# Altium footprint library basic02_capacitors.pcblib: 11 footprints
Each footprint in its own frame and in the unit in brackets; x right, y up, seen from the top. Pads: shape width x height; smd on the part's side, far side on the other; paste and mask are expansions set on the pad; w line width, h text height; cw(c..) or ccw(c..) is an arc to the next point about the centre after c.
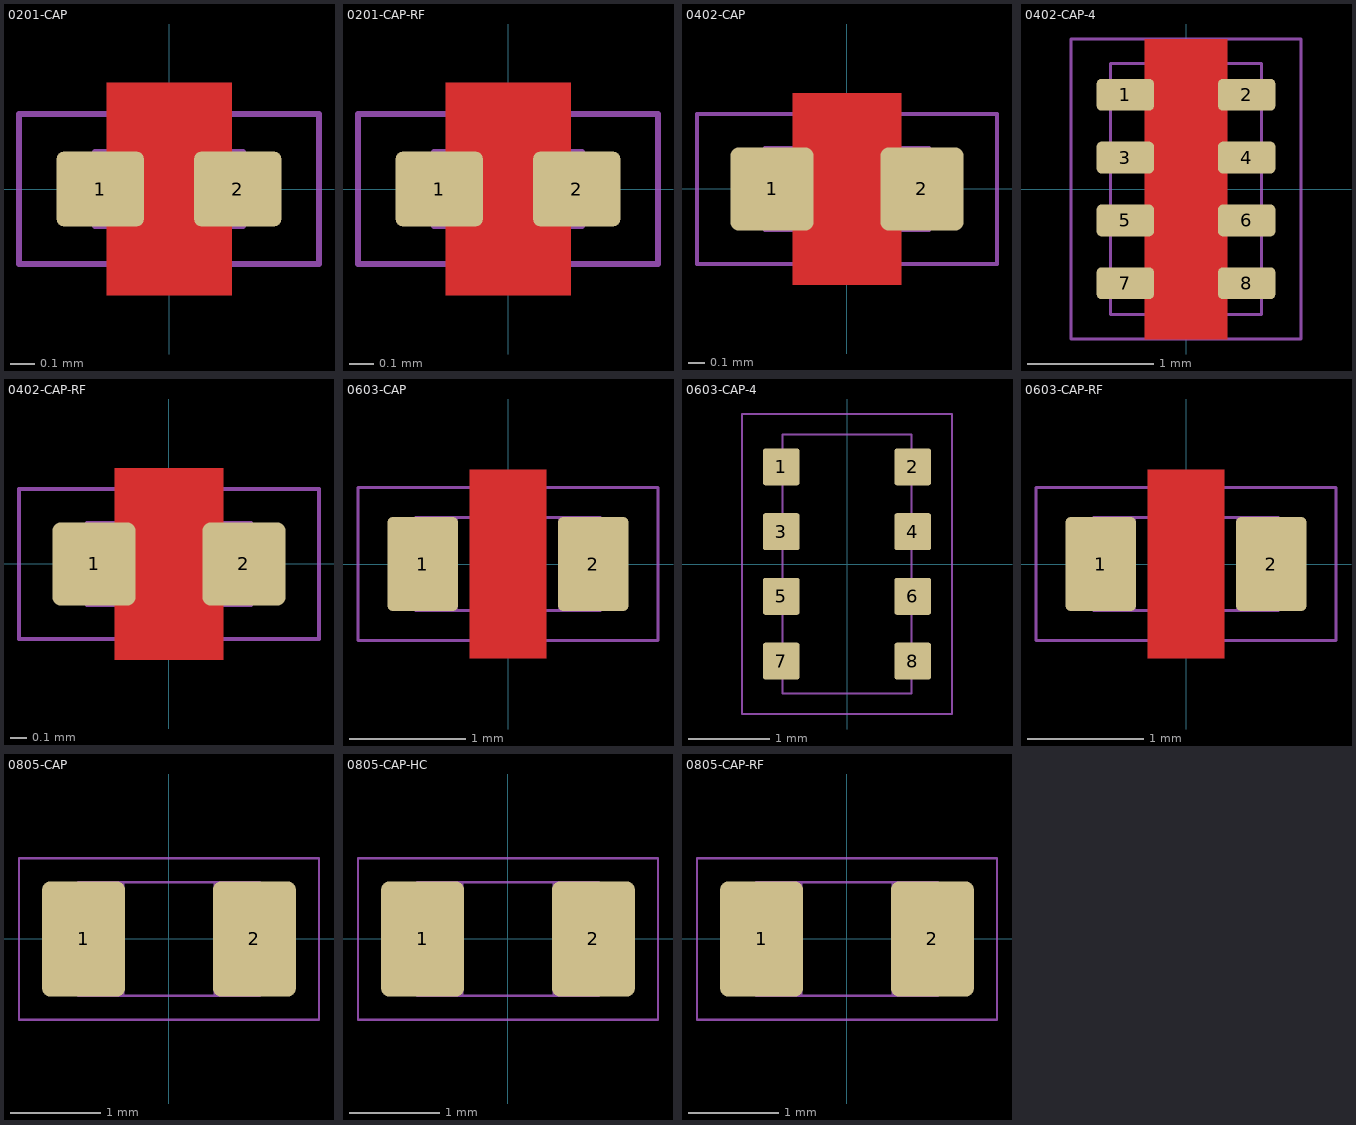
[diagram p0: the footprints below, top view; thin cyan lines are the x and y axes]

## 0201-CAP [mil] "Capacitor, 0201, General"
pads (2):
  rrect20% 14x12 smd paste+0 mask+2: 1(-11,0) 2(11,0)
Top Layer:
  pour cut-out: -10,-17 -10,17 10,17 10,-17
Top Solder:
  rectangle: -10,-8 10,8
  rectangle: -6,-13 6,13
Mechanical 15:
  lines w1: -24,-12 -24,12 24,12 24,-12 -24,-12
Mechanical 16:
  lines w1: -5.91,-5.91 -5.91,5.91 ; 5.91,-5.91 5.91,5.91 ; -11.81,-5.91 11.81,-5.91 11.81,5.91 -11.81,5.91 -11.81,-5.91
3D body: height 11.8, standoff 0.2, extent -11.81,-5.91 11.81,5.91
3D body: height 12, standoff 0, extent -12,-6 -6,6
3D body: height 12, standoff 0, extent 6,-6 12,6

## 0201-CAP-RF [mil] "Capacitor, 0201, High Frequency"
pads (2):
  rrect20% 14x12 smd paste+0 mask+2: 1(-11,0) 2(11,0)
Top Layer:
  pour cut-out: -10,-17 -10,17 10,17 10,-17
Top Solder:
  rectangle: -10,-8 10,8
  rectangle: -6,-13 6,13
Mechanical 15:
  lines w1: -24,-12 -24,12 24,12 24,-12 -24,-12
Mechanical 16:
  lines w1: -5.91,-5.91 -5.91,5.91 ; 5.91,-5.91 5.91,5.91 ; -11.81,-5.91 11.81,-5.91 11.81,5.91 -11.81,5.91 -11.81,-5.91
3D body: height 11.8, standoff 0.2, extent -11.81,-5.91 11.81,5.91
3D body: height 12, standoff 0, extent -12,-6 -6,6
3D body: height 12, standoff 0, extent 6,-6 12,6

## 0402-CAP [mil] "Capacitor, 0402, General"
pads (2):
  rrect20% 20x20 smd mask+2: 1(-18,0) 2(18,0)
Top Layer:
  pour cut-out: -13,23 13,23 13,-23 -13,-23
Top Solder:
  rectangle: -8,-18 8,18
  rectangle: -16,-12 16,12
Mechanical 15:
  lines w1: -36,-18 -36,18 36,18 36,-18 -36,-18
Mechanical 16:
  lines w1: -9.84,-9.84 -9.84,9.84 ; 9.84,-9.84 9.84,9.84 ; -19.68,-9.84 19.68,-9.84 19.68,9.84 -19.68,9.84 -19.68,-9.84
3D body: height 19.8, standoff 0.2, extent -19.68,-9.84 19.68,9.84
3D body: height 20, standoff 0, extent 10,-10 20,10
3D body: height 20, standoff 0, extent -20,-10 -10,10

## 0402-CAP-4 [mil] "Capacitor, 4 x 0402 Pack, General"
pads (8):
  rrect30% 18x10 smd mask+2: 1(-19,29.53) 2(19,29.53) 3(-19,9.84) 4(19,9.84) 5(-19,-9.84) 6(19,-9.84) 7(-19,-29.53) 8(19,-29.53)
Top Layer:
  pour cut-out: -13,47 13,47 13,-47 -13,-47
Top Solder:
  rectangle: -10,-16 10,16
Mechanical 15:
  lines w1: -36,-47 36,-47 36,47 -36,47 -36,-47
Mechanical 16:
  lines w1: -23.62,-39.37 -23.62,39.37 23.62,39.37 23.62,-39.37 -23.62,-39.37
3D body: height 23.62, standoff 0, extent -23.62,-39.37 23.62,39.37
3D body: height 24, standoff 0, extent -24,25 -16,34
3D body: height 24, standoff 0, extent -24,5.31 -16,14.31
3D body: height 24, standoff 0, extent -24,-14.37 -16,-5.37
3D body: height 24, standoff 0, extent -24,-34.06 -16,-25.06
3D body: height 24, standoff 0, extent 16,25.06 24,34.06
3D body: height 24, standoff 0, extent 16,5.37 24,14.37
3D body: height 24, standoff 0, extent 16,-14.31 24,-5.31
3D body: height 24, standoff 0, extent 16,-34 24,-25

## 0402-CAP-RF [mil] "Capacitor, 0402, High Frequency"
pads (2):
  rrect20% 20x20 smd mask+2: 1(-18,0) 2(18,0)
Top Layer:
  pour cut-out: -13,23 13,23 13,-23 -13,-23
Top Solder:
  rectangle: -16,-12 16,12
  rectangle: -8,-18 8,18
Mechanical 15:
  lines w1: -36,-18 -36,18 36,18 36,-18 -36,-18
Mechanical 16:
  lines w1: -9.84,-9.84 -9.84,9.84 ; 9.84,-9.84 9.84,9.84 ; -19.68,-9.84 19.68,-9.84 19.68,9.84 -19.68,9.84 -19.68,-9.84
3D body: height 19.8, standoff 0.2, extent -19.68,-9.84 19.68,9.84
3D body: height 20, standoff 0, extent 10,-10 20,10
3D body: height 20, standoff 0, extent -20,-10 -10,10

## 0603-CAP [mil] "Capacitor, 0603, General"
pads (2):
  rrect15% 24x32 smd paste-2 mask+2: 1(-29,0) 2(29,0)
Top Layer:
  pour cut-out: -13,32 13,32 13,-32 -13,-32
Top Solder:
  rectangle: -8,-27 8,27
Mechanical 15:
  lines w1: -51,-26 -51,26 51,26 51,-26 -51,-26
Mechanical 16:
  lines w1: -17.72,-15.75 -17.72,15.75 ; 17.72,-15.75 17.72,15.75 ; -31.5,-15.75 31.5,-15.75 31.5,15.75 -31.5,15.75 -31.5,-15.75
3D body: height 29.8, standoff 0.2, extent -31.5,-15.75 31.5,15.75
3D body: height 30, standoff 0, extent -32,-16 -18,16
3D body: height 30, standoff 0, extent 18,-16 32,16

## 0603-CAP-4 [mil] "Capacitor, 4 x 0603 Pack, General"
pads (8):
  rrect15% 18x18 smd mask+2: 1(-32,47.24) 2(32,47.24) 3(-32,15.75) 4(32,15.75) 5(-32,-15.75) 6(32,-15.75) 7(-32,-47.24) 8(32,-47.24)
Mechanical 15:
  lines w1: -51,-73 51,-73 51,73 -51,73 -51,-73
Mechanical 16:
  lines w1: -31.5,-62.99 31.5,-62.99 31.5,62.99 -31.5,62.99 -31.5,-62.99
3D body: height 32, standoff 0, extent -31.5,-62.99 31.5,62.99
3D body: height 33, standoff 0, extent -33.93,38.24 -25.93,56.24
3D body: height 33, standoff 0, extent -33.93,6.74 -25.93,24.74
3D body: height 33, standoff 0, extent -33.93,-24.76 -25.93,-6.76
3D body: height 33, standoff 0, extent -33.93,-56.25 -25.93,-38.25
3D body: height 33, standoff 0, extent 25.93,-56.24 33.93,-38.24
3D body: height 33, standoff 0, extent 25.93,-24.74 33.93,-6.74
3D body: height 33, standoff 0, extent 25.93,6.76 33.93,24.76
3D body: height 33, standoff 0, extent 25.93,38.25 33.93,56.25

## 0603-CAP-RF [mil] "Capacitor, 0603, High Frequency"
pads (2):
  rrect15% 24x32 smd paste-2 mask+2: 1(-29,0) 2(29,0)
Top Layer:
  pour cut-out: -13,32 13,32 13,-32 -13,-32
Top Solder:
  rectangle: -8,-27 8,27
Mechanical 15:
  lines w1: -51,-26 -51,26 51,26 51,-26 -51,-26
Mechanical 16:
  lines w1: -17.72,-15.75 -17.72,15.75 ; 17.72,-15.75 17.72,15.75 ; -31.5,-15.75 31.5,-15.75 31.5,15.75 -31.5,15.75 -31.5,-15.75
3D body: height 29.8, standoff 0.2, extent -31.5,-15.75 31.5,15.75
3D body: height 30, standoff 0, extent -32,-16 -18,16
3D body: height 30, standoff 0, extent 18,-16 32,16

## 0805-CAP [mil] "Capacitor, 0805, General"
pads (2):
  rrect20% 36x50 smd paste-3 mask+2: 1(-37,0) 2(37,0)
Mechanical 15:
  lines w1: -65,-35 -65,35 65,35 65,-35 -65,-35
Mechanical 16:
  lines w1: -19.68,-24.61 -19.68,24.61 ; 19.68,-24.61 19.68,24.61 ; -39.37,-24.61 -39.37,24.61 39.37,24.61 39.37,-24.61 -39.37,-24.61
3D body: height 25.5, standoff 0, extent -39.37,-24.61 -19.68,24.61
3D body: height 25, standoff 1, extent -39,-24 39,24
3D body: height 25.5, standoff 0, extent 19.68,-24.61 39.37,24.61

## 0805-CAP-HC [mil] "Capacitor, 0805, High Capacity"
pads (2):
  rrect20% 36x50 smd paste-3 mask+2: 1(-37,0) 2(37,0)
Mechanical 15:
  lines w1: -65,-35 65,-35 65,35 -65,35 -65,-35
Mechanical 16:
  lines w1: -19.68,-24.61 -19.68,24.61 ; 19.68,-24.61 19.68,24.61 ; -39.37,-24.61 39.37,-24.61 39.37,24.61 -39.37,24.61 -39.37,-24.61
3D body: height 49.5, standoff 0, extent 19.68,-24.61 39.37,24.61
3D body: height 49, standoff 1, extent -39,-24 39,24
3D body: height 49.5, standoff 0, extent -39.37,-24.61 -19.68,24.61

## 0805-CAP-RF [mil] "Capacitor, 0805, High Frequency"
pads (2):
  rrect20% 36x50 smd paste-3 mask+2: 1(-37,0) 2(37,0)
Mechanical 15:
  lines w1: -65,-35 -65,35 65,35 65,-35 -65,-35
Mechanical 16:
  lines w1: -19.68,-24.61 -19.68,24.61 ; 19.68,-24.61 19.68,24.61 ; -39.37,-24.61 -39.37,24.61 39.37,24.61 39.37,-24.61 -39.37,-24.61
3D body: height 25.5, standoff 0, extent -39.37,-24.61 -19.68,24.61
3D body: height 25, standoff 1, extent -39,-24 39,24
3D body: height 25.5, standoff 0, extent 19.68,-24.61 39.37,24.61